# EAGLE library part 4814P-T01 (library 1A-meinLib)
BOURNS RESISTOR NETWORK
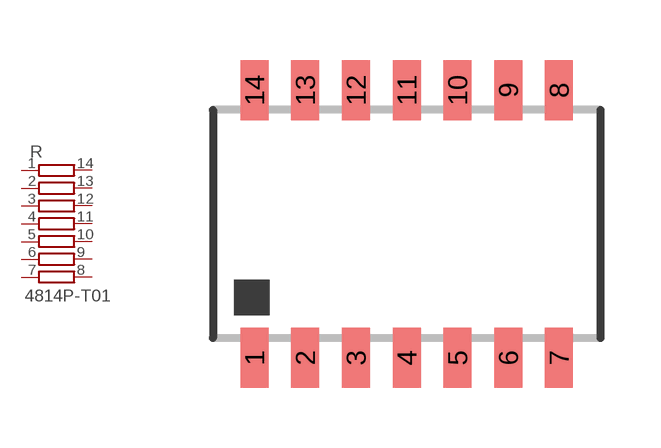
[diagram p320: symbol with the pads of 4814P; footprint 4814P]

Designator prefix R

## 4814P-T01  [4814P]
1  1  pas
2  2  pas
3  3  pas
4  4  pas
5  5  pas
6  6  pas
7  7  pas
8  8  pas
9  9  pas
10  10  pas
11  11  pas
12  12  pas
13  13  pas
14  14  pas

## Footprint 4814P (pad centres in mm)
BOURNS RESISTOR NETWORK
smd 0.7 x 1.5: 1 -3.81,-3.346; 2 -2.54,-3.346; 3 -1.27,-3.346; 4 0,-3.346; 5 1.27,-3.346; 6 2.54,-3.346; 7 3.81,-3.346; 8 3.81,3.346; 9 2.54,3.346; 10 1.27,3.346; 11 0,3.346; 12 -1.27,3.346; 13 -2.54,3.346; 14 -3.81,3.346